# EAGLE library part STM32F10XVXT6 (library STM32)
STM32F101/103 100 pin LQFP
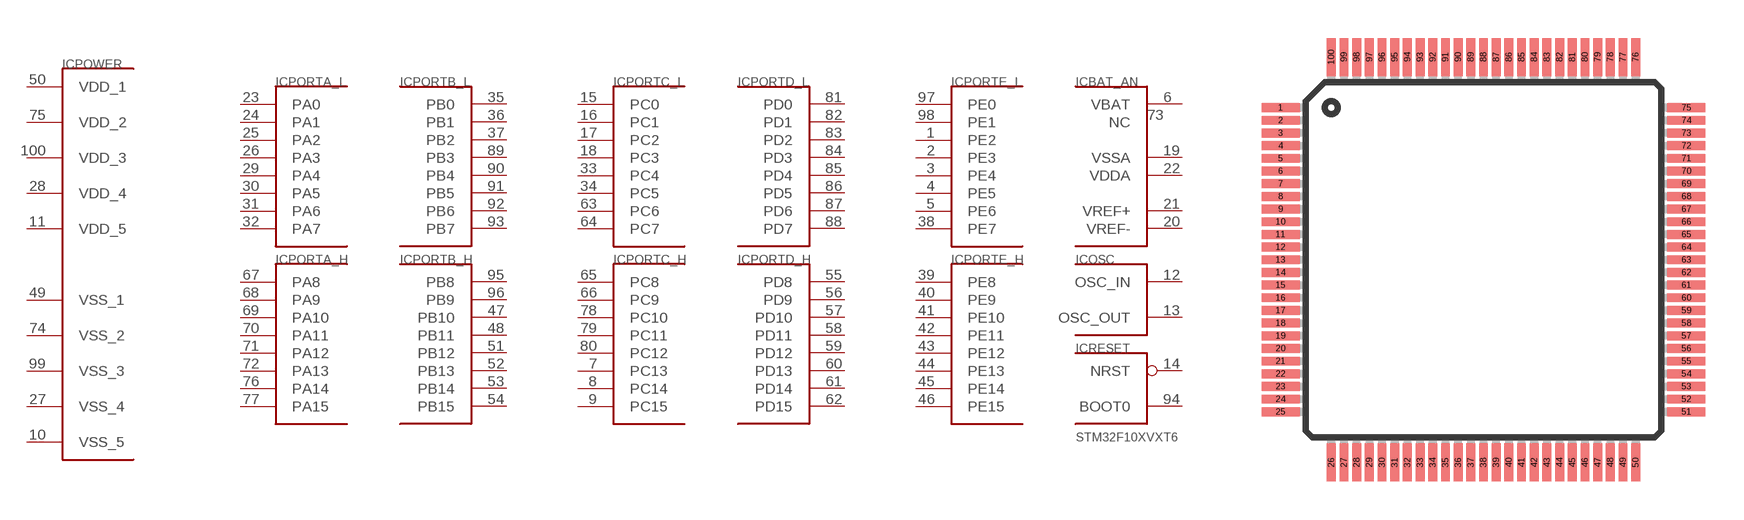
[diagram p3: symbol with the pads of TQFP100; footprint TQFP100]

Designator prefix IC; gates PORTA_L=PORT_A_L PORTA_H=PORT_A_H PORTB_L=PORT_B_L PORTB_H=PORT_B_H PORTC_L=PORT_C_L PORTC_H=PORT_C_H PORTD_L=PORT_D_L PORTD_H=PORT_D_H PORTE_L=PORT_E_L PORTE_H=PORT_E_H POWER=VCC_VSS_L BAT_AN=BAT_AN_L OSC=OSC RESET=BOOT_RST

## STM32F10XVXT6  [TQFP100]
1  PORTE_L:PE2
2  PORTE_L:PE3
3  PORTE_L:PE4
4  PORTE_L:PE5
5  PORTE_L:PE6
6  BAT_AN:VBAT  pwr
7  PORTC_H:PC13
8  PORTC_H:PC14
9  PORTC_H:PC15
10  POWER:VSS_5  pwr
11  POWER:VDD_5  pwr
12  OSC:OSC_IN  in
13  OSC:OSC_OUT  out
14  RESET:NRST  in
15  PORTC_L:PC0
16  PORTC_L:PC1
17  PORTC_L:PC2
18  PORTC_L:PC3
19  BAT_AN:VSSA  pwr
20  BAT_AN:VREF-  in
21  BAT_AN:VREF+  in
22  BAT_AN:VDDA  pwr
23  PORTA_L:PA0
24  PORTA_L:PA1
25  PORTA_L:PA2
26  PORTA_L:PA3
27  POWER:VSS_4  pwr
28  POWER:VDD_4  pwr
29  PORTA_L:PA4
30  PORTA_L:PA5
31  PORTA_L:PA6
32  PORTA_L:PA7
33  PORTC_L:PC4
34  PORTC_L:PC5
35  PORTB_L:PB0
36  PORTB_L:PB1
37  PORTB_L:PB2
38  PORTE_L:PE7
39  PORTE_H:PE8
40  PORTE_H:PE9
41  PORTE_H:PE10
42  PORTE_H:PE11
43  PORTE_H:PE12
44  PORTE_H:PE13
45  PORTE_H:PE14
46  PORTE_H:PE15
47  PORTB_H:PB10
48  PORTB_H:PB11
49  POWER:VSS_1  pwr
50  POWER:VDD_1  pwr
51  PORTB_H:PB12
52  PORTB_H:PB13
53  PORTB_H:PB14
54  PORTB_H:PB15
55  PORTD_H:PD8
56  PORTD_H:PD9
57  PORTD_H:PD10
58  PORTD_H:PD11
59  PORTD_H:PD12
60  PORTD_H:PD13
61  PORTD_H:PD14
62  PORTD_H:PD15
63  PORTC_L:PC6
64  PORTC_L:PC7
65  PORTC_H:PC8
66  PORTC_H:PC9
67  PORTA_H:PA8
68  PORTA_H:PA9
69  PORTA_H:PA10
70  PORTA_H:PA11
71  PORTA_H:PA12
72  PORTA_H:PA13
73  BAT_AN:NC  nc
74  POWER:VSS_2  pwr
75  POWER:VDD_2  pwr
76  PORTA_H:PA14
77  PORTA_H:PA15
78  PORTC_H:PC10
79  PORTC_H:PC11
80  PORTC_H:PC12
81  PORTD_L:PD0
82  PORTD_L:PD1
83  PORTD_L:PD2
84  PORTD_L:PD3
85  PORTD_L:PD4
86  PORTD_L:PD5
87  PORTD_L:PD6
88  PORTD_L:PD7
89  PORTB_L:PB3
90  PORTB_L:PB4
91  PORTB_L:PB5
92  PORTB_L:PB6
93  PORTB_L:PB7
94  RESET:BOOT0  in
95  PORTB_H:PB8
96  PORTB_H:PB9
97  PORTE_L:PE0
98  PORTE_L:PE1
99  POWER:VSS_3  pwr
100  POWER:VDD_3  pwr

## Footprint TQFP100 (pad centres in mm)
smd 1.5 x 0.35: 1 -8,6; 2 -8,5.5; 3 -8,5; 4 -8,4.5; 5 -8,4; 6 -8,3.5; 7 -8,3; 8 -8,2.5; 9 -8,2; 10 -8,1.5; 11 -8,1; 12 -8,0.5; 13 -8,0; 14 -8,-0.5; 15 -8,-1; 16 -8,-1.5; 17 -8,-2; 18 -8,-2.5; 19 -8,-3; 20 -8,-3.5; 21 -8,-4; 22 -8,-4.5; 23 -8,-5; 24 -8,-5.5; 25 -8,-6; 51 8,-6; 52 8,-5.5; 53 8,-5; 54 8,-4.5; 55 8,-4; 56 8,-3.5; 57 8,-3; 58 8,-2.5; 59 8,-2; 60 8,-1.5; 61 8,-1; 62 8,-0.5; 63 8,0; 64 8,0.5; 65 8,1; 66 8,1.5; 67 8,2; 68 8,2.5; 69 8,3; 70 8,3.5; 71 8,4; 72 8,4.5; 73 8,5; 74 8,5.5; 75 8,6
smd 0.35 x 1.5: 26 -6,-8; 27 -5.5,-8; 28 -5,-8; 29 -4.5,-8; 30 -4,-8; 31 -3.5,-8; 32 -3,-8; 33 -2.5,-8; 34 -2,-8; 35 -1.5,-8; 36 -1,-8; 37 -0.5,-8; 38 0,-8; 39 0.5,-8; 40 1,-8; 41 1.5,-8; 42 2,-8; 43 2.5,-8; 44 3,-8; 45 3.5,-8; 46 4,-8; 47 4.5,-8; 48 5,-8; 49 5.5,-8; 50 6,-8; 76 6,8; 77 5.5,8; 78 5,8; 79 4.5,8; 80 4,8; 81 3.5,8; 82 3,8; 83 2.5,8; 84 2,8; 85 1.5,8; 86 1,8; 87 0.5,8; 88 0,8; 89 -0.5,8; 90 -1,8; 91 -1.5,8; 92 -2,8; 93 -2.5,8; 94 -3,8; 95 -3.5,8; 96 -4,8; 97 -4.5,8; 98 -5,8; 99 -5.5,8; 100 -6,8